# Altium integrated library Simulation Generic Components.IntLib: 218 symbols (part 4 of 7)
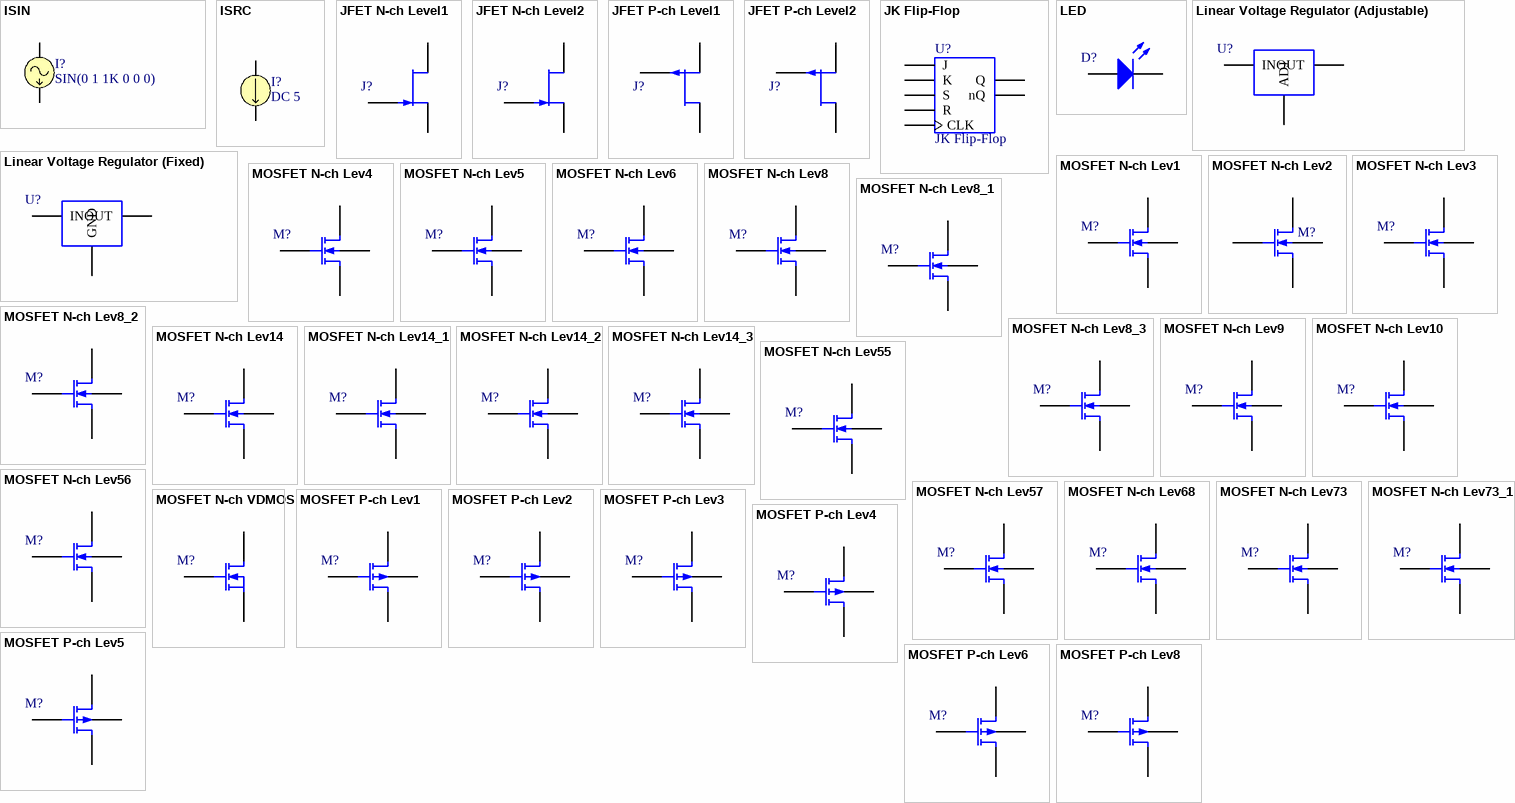
[diagram p8: symbols ISIN to MOSFET P-ch Lev8]

## MOSFET N-ch Lev73_1
designator M?, comment N-channel MOSFET HISIM_HV2 v2.2.0 Model  (value not drawn)
BB: 2; BGTMP1: 9.025e-05; BGTMP2: 1e-07; BS1: 0; BS2: 0.9; CJ: 0.0005; CJSW: 5e-10; CLM1: 0.05; CLM3: 1; DDLTICT: 10; DDRIFT: 1e-06; DEPLEAK: 0.5; DEPMUE0: 1000; DEPMUEBACK0: 100; DEPMUEPH0: 0.3; DEPMUEPH1: 5000; DEPMUETMP: 1.5; DEPVMAX: 3e07; DLY1: 1e-10; DLY2: 0.7; DLY3: 8e-07; EG0: 1.1785; FN1: 50; FN2: 0.00017; FVBS: 0.012; GBMIN: 1e-12; GIDL5: 0.2; GLEAK2: 1e07; GLEAK3: 0.06; GLEAK4: 4; GLEAK5: 7500; GLEAK6: 0.25; GLKB1: 5e-16; GLKSD1: 1e-15; GLKSD3: -1000; IBPC1LP: -1; JS0: 5e-07; KAPPA: 3.9; LP: 1.5e-08; LPEXT: 1e-50; MJSW: 0.33; MPHDFM: -0.3; MUEPH1: 20000; MUESR1: 6e14; NDEPM: 1e17; NFALP: 1e-19; NFTRP: 1e10; NOVER: 3e16; NPEXT: 5e17; NSUBC: 3e17; NSUBP: 1e18; NSUBSUB: 1e15; OVMAG: 0.6; OVSLP: 2.1e-07; PARL2: 1e-08; PTP: 3.5; PZADD0: 0.005; RDRQOVER: 100000; RDVD: 0.07; RTH0: 0.1; SHEMAX: 500; SLG: 3e-08; SUB1L: 0.0025; SUB2: 25; SUB2L: 2e-06; SVDS: 0.8; TNDEP: 2e-07; TNOM: 27; TOX: 7e-09; VBD_MAX: 1e99; VBI: 1.1; VBSMIN: -10.5; VDIFFJ: 0.0006; VFBOVER: -0.5; VGSMIN: -100; VZADD0: 0.01; SimulationGenericComponent: True; CGBO: 0; CGDO: 0; CGSO: 0; CISB: 0; CISBD: 0; CISBK: 0; CISBKD: 0; CISBKS: 0; CISBS: 0; CIT: 0; CJD: 0.0005; CJS: 0.0005; CJSWD: 5e-10; CJSWG: 5e-10; CJSWGD: 5e-10; CJSWGS: 5e-10; CJSWS: 5e-10; CLM2: 2; CLM5: 1; CLM6: 0; COADOV: 1; CODDLT: 1; CODEP: 0; CODFM: 0; COERRREP: 1; COFLICK: 0; COGIDL: 0; COIGN: 0; COIIGS: 0; COIPRV: 1; COISTI: 0; COISUB: 0; COLDRIFT: 1; CONQS: 0; COOVLP: 1; COOVLPS: 0; COPPRV: 1; COQOVSM: 1; CORDRIFT: 1; CORSRD: 0; COSYM: 0; COTEMP: 0; COTHRML: 0; CTEMP: 0; CTEMPD: 0; CTEMPS: 0; CTH0: 1e-07; CVB: 0; CVBD: 0; CVBK: 0; CVBS: 0; CVDSOVER: 0; DDLTMAX: 10; DDLTSLP: 0; DEPBB: 1; DEPETA: 0; DEPMUE1: 0; DEPMUEBACK1: 0; DEPVDSEF1: 2; DEPVDSEF2: 0.5; DEPVTMP: 0; DIVX: 0; DIVXD: 0; DIVXS: 0; DLYOV: 0; EGIG: 0; FALPH: 1; FN3: 0; GDL: 0; GDLD: 0; GDLP: 0; GDSLEAK: 0; GIDL1: 2; GIDL2: 3e07; GIDL3: 0.9; GIDL4: 0; GLEAK1: 50; GLEAK7: 1e-06; GLKB2: 1; GLKB3: 0; GLKSD2: 1000; GLPART1: 0.5; IBPC1: 0; IBPC1L: 0; IBPC2: 0; IGTEMP2: 0; IGTEMP3: 0; INFO: 0; ISBREAK: 1e-12; JS0D: 5e-07; JS0S: 5e-07; JS0SW: 0; JS0SWD: 0; JS0SWS: 0; LBGTMP1: 0; LBGTMP2: 0; LBINN: 1; LCGBO: 0; LCGDO: 0; LCGSO: 0; LCISBK: 0; LCISBKD: 0; LCISBKS: 0; LCLM1: 0; LCLM2: 0; LCLM3: 0; LCVDSOVER: 0; LEG0: 0; LEVEL: 0; LFALPH: 0; LFN1: 0; LFN2: 0; LFN3: 0; LFVBS: 0; LGIDL1: 0; LGIDL2: 0; LGLEAK1: 0; LGLEAK2: 0; LGLEAK3: 0; LGLEAK6: 0; LGLKB1: 0; LGLKB2: 0; LGLKSD1: 0; LGLKSD2: 0; LIBPC1: 0; LIBPC2: 0; LJS0: 0; LJS0D: 0; LJS0S: 0; LJS0SW: 0; LJS0SWD: 0; LJS0SWS: 0; LL: 0; LLD: 0; LLN: 0; LMAX: 1; LMIN: 0; LMUECB0: 0; LMUECB1: 0; LMUEPH1: 0; LMUESR1: 0; LMUESTI1: 0; LMUESTI2: 0; LMUESTI3: 0; LMUETMP: 0; LNDEP: 0; LNFALP: 0; LNFTRP: 0; LNINV: 0; LNJ: 0; LNJD: 0; LNJS: 0; LNOVER: 0; LNOVERS: 0; LNPEXT: 0; LNSTI: 0; LNSUBC: 0; LNSUBP: 0; LNSUBPSTI1: 0; LNSUBPSTI2: 0; LNSUBPSTI3: 0; LPGD1: 0; LPOWRAT: 0; LRD: 0; LRD22: 0; LRD23: 0; LRD24: 0; LRDICT1: 0; LRDOV13: 0; LRDSLP1: 0; LRDVB: 0; LRDVD: 0; LRDVG11: 0; LRS: 0; LRTH0: 0; LSC1: 0; LSC2: 0; LSC3: 0; LSCP1: 0; LSCP2: 0; LSCP3: 0; LSCSTI1: 0; LSCSTI2: 0; LSUB1: 0; LSUB2: 0; LSVBS: 0; LSVDS: 0; LSVGS: 0; LVDIFFJ: 0; LVDIFFJD: 0; LVDIFFJS: 0; LVFBC: 0; LVFBOVER: 0; LVMAX: 0; LVOVER: 0; LVTHSTI: 0; LVTMP: 0; LWFC: 0; LWL2: 0; LWSTI: 0; LWVTH0: 0; MJ: 0.5; MJD: 0.5; MJS: 0.5; MJSWD: 0.33; MJSWG: 0.33; MJSWGD: 0.33; MJSWGS: 0.33; MJSWS: 0.33; MUECB0: 1000; MUECB1: 100; MUEPH0: 0.3; MUEPHL: 0; MUEPHS: 0; MUEPHW: 0; MUEPLP: 1; MUEPSP: 1; MUEPWP: 1; MUESLP: 1; MUESR0: 2; MUESRL: 0; MUESRW: 0; MUESTI1: 0; MUESTI2: 0; MUESTI3: 1; MUESWP: 1; MUETMP: 1.5; NDEP: 1; NDEPL: 0; NDEPLP: 1; NINV: 0.5; NINVD: 0; NINVDT1: 0; NINVDT2: 0; NINVDW: 0; NINVDWP: 1; NJ: 1; NJD: 1; NJS: 1; NJSW: 1; NJSWD: 1; NJSWS: 1; NOISE: 1; NOVERS: 1e17; NSTI: 5e17; NSUBCW: 0; NSUBCWP: 1; NSUBP0: 0; NSUBPSTI1: 0; NSUBPSTI2: 0; NSUBPSTI3: 1; NSUBWP: 1; PB: 1; PBD: 1; PBGTMP1: 0; PBGTMP2: 0; PBS: 1; PBSW: 1; PBSWD: 1; PBSWG: 1; PBSWGD: 1; PBSWGS: 1; PBSWS: 1; PCGBO: 0; PCGDO: 0; PCGSO: 0; PCISBK: 0; PCISBKD: 0; PCISBKS: 0; PCLM1: 0; PCLM2: 0; PCLM3: 0; PCVDSOVER: 0; PEG0: 0; PFALPH: 0; PFN1: 0; PFN2: 0; PFN3: 0; PFVBS: 0; PGD1: 0; PGD2: 1; PGD4: 0; PGIDL1: 0; PGIDL2: 0; PGLEAK1: 0; PGLEAK2: 0; PGLEAK3: 0; PGLEAK6: 0; PGLKB1: 0; PGLKB2: 0; PGLKSD1: 0; PGLKSD2: 0; PIBPC1: 0; PIBPC2: 0; PJS0: 0; PJS0D: 0; PJS0S: 0; PJS0SW: 0; PJS0SWD: 0; PJS0SWS: 0; PMUECB0: 0; PMUECB1: 0; PMUEPH1: 0; PMUESR1: 0; PMUESTI1: 0; PMUESTI2: 0; PMUESTI3: 0; PMUETMP: 0; PNDEP: 0; PNFALP: 0; PNFTRP: 0; PNINV: 0; PNJ: 0; PNJD: 0; PNJS: 0; PNOVER: 0; PNOVERS: 0; PNPEXT: 0; PNSTI: 0; PNSUBC: 0; PNSUBP: 0; PNSUBPSTI1: 0; PNSUBPSTI2: 0; PNSUBPSTI3: 0; POWRAT: 1; PPGD1: 0; PPOWRAT: 0; PRATTEMP1: 0; PRATTEMP2: 0; PRD: 0; PRD22: 0; PRD23: 0; PRD24: 0; PRDICT1: 0; PRDOV13: 0; PRDSLP1: 0; PRDVB: 0; PRDVD: 0; PRDVG11: 0; PRS: 0; PRTH0: 0; PSC1: 0; PSC2: 0; PSC3: 0; PSCP1: 0; PSCP2: 0; PSCP3: 0; PSCSTI1: 0; PSCSTI2: 0; PSUB1: 0; PSUB2: 0; PSVBS: 0; PSVDS: 0; PSVGS: 0; PT2: 0; PT4: 0; PT4P: 1; PTL: 0; PTLP: 1; PVDIFFJ: 0; PVDIFFJD: 0; PVDIFFJS: 0; PVFBC: 0; PVFBOVER: 0; PVMAX: 0; PVOVER: 0; PVTHSTI: 0; PVTMP: 0; PWFC: 0; PWL2: 0; PWSTI: 0; PWVTH0: 0; QDFTVD: 1; QME1: 0; QME2: 2; QME3: 0; QOVADD: 0; RD: 0; RD20: 0; RD21: 1; RD22: 0; RD22D: 0; RD23: 0.005; RD23L: 0; RD23LP: 1; RD23S: 0; RD23SP: 1; RD24: 0; RD25: 0; RDICT1: 1; RDICT2: 0; RDOV11: 0; RDOV12: 1; RDOV13: 1; RDRBB: 1; RDRBBTMP: 0; RDRCAR: 1e-08; RDRCX: 0; RDRDJUNC: 1e-06; RDRDL1: 0; RDRDL2: 0; RDRMUE: 1000; RDRMUEL: 0; RDRMUELP: 1; RDRMUETMP: 0; RDRVMAX: 3e07; RDRVMAXL: 0; RDRVMAXLP: 1; RDRVMAXW: 0; RDRVMAXWP: 1; RDRVTMP: 0; RDS: 0; RDSLP1: 0; RDSLP2: 1; RDSP: 1; RDTEMP1: 0; RDTEMP2: 0; RDVB: 0; RDVDL: 0; RDVDLP: 1; RDVDS: 0; RDVDSP: 1; RDVDSUB: 0.3; RDVDTEMP1: 0; RDVDTEMP2: 0; RDVG11: 0; RDVG12: 100; RDVSUB: 1; RS: 0; RSH: 0; RSHG: 0; RTH0NF: 0; RTH0R: 0; RTH0W: 0; RTH0WP: 1; RTHTEMP1: 0; RTHTEMP2: 0; RWELL: 1000; SAREF: 1e-06; SBREF: 1e-06; SC1: 0; SC2: 0; SC3: 0; SC4: 0; SCP1: 0; SCP2: 0; SCP21: 0; SCP22: 0; SCP3: 0; SCSTI1: 0; SCSTI2: 0; SHOW: 0; SLGL: 0; SLGLP: 1; SUB1: 10; SUB1LP: 1; SUBLD1L: 0; SUBLD1LP: 1; SVBS: 0.5; SVBSL: 0; SVBSLP: 1; SVGS: 0.8; SVGSL: 0; SVGSLP: 1; SVGSW: 0; SVGSWP: 1; TCJBD: 0; TCJBDSW: 0; TCJBDSWG: 0; TCJBS: 0; TCJBSSW: 0; TCJBSSWG: 0; TPOLY: 2e-07; VBDR_MAX: 1e99; VBISUB: 0.7; VBS_MAX: 1e99; VBSR_MAX: 1e99; VDIFFJD: 0.0006; VDIFFJS: 0.0006; VDS_MAX: 1e99; VDSTI: 0; VERSION: 2.20; VFBC: -1; VGB_MAX: 1e99; VGBR_MAX: 1e99; VGD_MAX: 1e99; VGDR_MAX: 1e99; VGS_MAX: 1e99; VGSR_MAX: 1e99; VMAX: 1e07; VMAXT1: 0; VMAXT2: 0; VOVER: 0.3; VOVERP: 0.3; VOVERS: 0; VOVERSP: 0; VTHSTI: 0; VTMP: 0; WBGTMP1: 0; WBGTMP2: 0; WBINN: 1; WCGBO: 0; WCGDO: 0; WCGSO: 0; WCISBK: 0; WCISBKD: 0; WCISBKS: 0; WCLM1: 0; WCLM2: 0; WCLM3: 0; WCVDSOVER: 0; WEG0: 0; WFALPH: 0; WFC: 0; WFN1: 0; WFN2: 0; WFN3: 0; WFVBS: 0; WGIDL1: 0; WGIDL2: 0; WGLEAK1: 0; WGLEAK2: 0; WGLEAK3: 0; WGLEAK6: 0; WGLKB1: 0; WGLKB2: 0; WGLKSD1: 0; WGLKSD2: 0; WIBPC1: 0; WIBPC2: 0; WJS0: 0; WJS0D: 0; WJS0S: 0; WJS0SW: 0; WJS0SWD: 0; WJS0SWS: 0; WL: 0; WL1: 0; WL1P: 1; WL2: 0; WL2P: 1; WLD: 0; WLN: 0; WMAX: 1; WMIN: 0; WMUECB0: 0; WMUECB1: 0; WMUEPH1: 0; WMUESR1: 0; WMUESTI1: 0; WMUESTI2: 0; WMUESTI3: 0; WMUETMP: 0; WNDEP: 0; WNFALP: 0; WNFTRP: 0; WNINV: 0; WNJ: 0; WNJD: 0; WNJS: 0; WNOVER: 0; WNOVERS: 0; WNPEXT: 0; WNSTI: 0; WNSUBC: 0; WNSUBP: 0; WNSUBPSTI1: 0; WNSUBPSTI2: 0; WNSUBPSTI3: 0; WPGD1: 0; WPOWRAT: 0; WRD: 0; WRD22: 0; WRD23: 0; WRD24: 0; WRDICT1: 0; WRDOV13: 0; WRDSLP1: 0; WRDVB: 0; WRDVD: 0; WRDVG11: 0; WRS: 0; WRTH0: 0; WSC1: 0; WSC2: 0; WSC3: 0; WSCP1: 0; WSCP2: 0; WSCP3: 0; WSCSTI1: 0; WSCSTI2: 0; WSTI: 0; WSTIL: 0; WSTILP: 1; WSTIW: 0; WSTIWP: 1; WSUB1: 0; WSUB2: 0; WSVBS: 0; WSVDS: 0; WSVGS: 0; WVDIFFJ: 0; WVDIFFJD: 0; WVDIFFJS: 0; WVFBC: 0; WVFBOVER: 0; WVMAX: 0; WVOVER: 0; WVTH0: 0; WVTHSTI: 0; WVTMP: 0; WWFC: 0; WWL2: 0; WWSTI: 0; WWVTH0: 0; XL: 0; XLD: 0; XLDLD: 1e-06; XPDV: 0; XPVDTH: 0; XPVDTHG: 0; XQY: 0; XQY1: 0; XQY2: 2; XTI: 2; XTI2: 0; XTI2D: 0; XTI2S: 0; XTID: 2; XTIS: 2; XW: 0; XWD: 0; XWDC: 0; XWDLD: 0
simulation model NMOSFET_HISIM_HV2 (HISIM_HV1 v1.2.4)
pins: 1 D, 2 G, 3 S, 4 B

## MOSFET N-ch VDMOS
designator M?, comment N-channel Power MOSFET VDMOS Model  (value not drawn)
XTI: 0; A: 1; BV: 1e30; EG: 1.11; FC: 0.5; IBV: 1e-10; IS: 1e-14; PHI: 0.6; TNOM: 27; VJ: 0.8; SimulationGenericComponent: True; CGDMAX: 0; CGDMIN: 0; CGS: 0; CJO: 0; KP: 1; KSUBTHRES: 0; LAMBDA: 0; M: 0.5; MTRIODE: 1; N: 1; NBV: 1; NCHAN: 1; RB: 0; RD: 0; RDS: 1e30; RG: 0; RQ: 0; RS: 0; SUBSHIFT: 0; SUBSLOPE: 0; THETA: 0; TT: 0; VQ: 0; VTO: 0
simulation model VDMOS_Nchan (Power MOS model N-chanel VDMOS)
pins: 1 D, 2 G, 3 S

## MOSFET P-ch Lev1
designator M?, comment P-channel MOS1 MOSFET Shichman and Hodges Model  (value not drawn)
CBD: 0; FC: 0.5; IS: 1e-14; KP: 2e-05; PB: 0.8; PHI: 0.6; TNOM: 27; SimulationGenericComponent: True; CBS: 0; CGBO: 0; CGDO: 0; CGSO: 0; CJ: 0; CJSW: 0; GAMMA: 0; JS: 0; LAMBDA: 0; LD: 0; MJ: 0.5; MJSW: 0.5; NSS: 0; NSUB: 0; RD: 0; RS: 0; RSH: 0; TOX: 0; TPG: 0; U0: 0; VTO: 0
simulation model PMOSFET_Level1 (MOS1 Shichman and Hodges Model)
pins: 1 D, 2 G, 3 S, 4 B

## MOSFET P-ch Lev2
designator M?, comment P-channel MOSFET MOS2 Grove-Frohman Model  (value not drawn)
AF: 1; CBD: 0; FC: 0.5; IS: 1e-14; KP: 2.07189e-05; MJSW: 0.33; PB: 0.8; PHI: 0.6; TNOM: 27; TOX: 1e-07; U0: 600; UCRIT: 10000; SimulationGenericComponent: True; CBS: 0; CGBO: 0; CGDO: 0; CGSO: 0; CJ: 0; CJSW: 0; DELTA: 0; GAMMA: 0; JS: 0; KF: 0; LAMBDA: 0; LD: 0; MJ: 0.5; NEFF: 1; NFS: 0; NSS: 0; NSUB: 0; RD: 0; RS: 0; RSH: 0; TPG: 0; UEXP: 0; VMAX: 0; VTO: 0; XJ: 0
simulation model PMOSFET_Level2 (MOS2 Grove-Frohman Model)
pins: 1 D, 2 G, 3 S, 4 B

## MOSFET P-ch Lev3
designator M?, comment P-channel MOSFET MOS3 Model  (value not drawn)
AF: 1; ALPHA: 0; FC: 0.5; IS: 1e-14; KAPPA: 0.2; KP: 2.07189e-05; MJSW: 0.33; PB: 0.8; PHI: 0.6; TNOM: 27; TOX: 1e-07; U0: 600; SimulationGenericComponent: True; CBD: 0; CBS: 0; CGBO: 0; CGDO: 0; CGSO: 0; CJ: 0; CJSW: 0; DELTA: 0; DELVTO: 0; ETA: 0; GAMMA: 0; INPUT_DELTA: 0; JS: 0; KF: 0; LD: 0; MJ: 0.5; NFS: 0; NSS: 0; NSUB: 0; RD: 0; RS: 0; RSH: 0; THETA: 0; TPG: 0; VMAX: 0; VTO: 0; WD: 0; XD: 0; XJ: 0; XL: 0; XW: 0
simulation model PMOSFET_Level3 (MOS3)
pins: 1 D, 2 G, 3 S, 4 B

## MOSFET P-ch Lev4
designator M?, comment P-channel MOSFET BSIM1 Model  (value not drawn)
AF: 1; CGBO: 0; PB: 0.1; SimulationGenericComponent: True; CGDO: 0; CGSO: 0; CJ: 0; CJSW: 0; DELL: 0; DL: 0; DW: 0; ETA: 0; JS: 0; K1: 0; K2: 0; KF: 0; LETA: 0; LK1: 0; LK2: 0; LMUS: 0; LN0: 0; LNB: 0; LND: 0; LPHI: 0; LU0: 0; LU1: 0; LVFB: 0; LX2E: 0; LX2MS: 0; LX2MZ: 0; LX2U0: 0; LX2U1: 0; LX3E: 0; LX3MS: 0; LX3U1: 0; MJ: 0; MJSW: 0; MUS: 0; MUZ: 0; N0: 0; NB: 0; ND: 0; PBSW: 0.1; PHI: 0; RSH: 0; TEMP: 0; TOX: 0; U0: 0; U1: 0; VDD: 0; VFB: 0; WDF: 0; WETA: 0; WK1: 0; WK2: 0; WMUS: 0; WN0: 0; WNB: 0; WND: 0; WPHI: 0; WU0: 0; WU1: 0; WVFB: 0; WX2E: 0; WX2MS: 0; WX2MZ: 0; WX2U0: 0; WX2U1: 0; WX3E: 0; WX3MS: 0; WX3U1: 0; X2E: 0; X2MS: 0; X2MZ: 0; X2U0: 0; X2U1: 0; X3E: 0; X3MS: 0; X3U1: 0; XPART: 0
simulation model PMOSFET_BSIM1 (BSIM1)
pins: 1 D, 2 G, 3 S, 4 B

## MOSFET P-ch Lev5
designator M?, comment P-channel MOSFET BSIM2 Model  (value not drawn)
AF: 0; K1: 0.8; MU0: 400; MU20: 1.5; MU30: 10; MUS0: 500; N0: 1.4; NB: 0.5; PB: 0.1; PHI: 0.75; TEMP: 27; TOX: 0.03; UA0: 0.2; VBB: 5; VFB: -1; VGLOW: -0.15; VOF0: 1.8; SimulationGenericComponent: True; AI0: 0; AIB: 0; BI0: 0; BIB: 0; CGBO: 0; CGDO: 0; CGSO: 0; CJ: 0; CJSW: 0; DELL: 0; DL: 0; DW: 0; ETA0: 0; ETAB: 0; JS: 0; K2: 0; KF: 0; LAI0: 0; LAIB: 0; LBI0: 0; LBIB: 0; LETA0: 0; LETAB: 0; LK1: 0; LK2: 0; LMU0B: 0; LMU20: 0; LMU2B: 0; LMU2G: 0; LMU30: 0; LMU3B: 0; LMU3G: 0; LMU40: 0; LMU4B: 0; LMU4G: 0; LMUS0: 0; LMUSB: 0; LN0: 0; LNB: 0; LND: 0; LPHI: 0; LU10: 0; LU1B: 0; LU1D: 0; LUA0: 0; LUAB: 0; LUB0: 0; LUBB: 0; LVFB: 0; LVGHIGH: 0; LVGLOW: 0; LVOF0: 0; LVOFB: 0; LVOFD: 0; MJ: 0; MJSW: 0; MU0B: 0; MU2B: 0; MU2G: 0; MU3B: 0; MU3G: 0; MU40: 0; MU4B: 0; MU4G: 0; MUSB: 0; ND: 0; PBSW: 0.1; RSH: 0; U10: 0.1; U1B: 0; U1D: 0; UAB: 0; UB0: 0; UBB: 0; VDD: 5; VGG: 5; VGHIGH: 0.2; VOFB: 0; VOFD: 0; WAI0: 0; WAIB: 0; WBI0: 0; WBIB: 0; WDF: 10; WETA0: 0; WETAB: 0; WK1: 0; WK2: 0; WMU0B: 0; WMU20: 0; WMU2B: 0; WMU2G: 0; WMU30: 0; WMU3B: 0; WMU3G: 0; WMU40: 0; WMU4B: 0; WMU4G: 0; WMUS0: 0; WMUSB: 0; WN0: 0; WNB: 0; WND: 0; WPHI: 0; WU10: 0; WU1B: 0; WU1D: 0; WUA0: 0; WUAB: 0; WUB0: 0; WUBB: 0; WVFB: 0; WVGHIGH: 0; WVGLOW: 0; WVOF0: 0; WVOFB: 0; WVOFD: 0; XPART: 0
simulation model PMOSFET_BSIM2 (BSIM1)
pins: 1 D, 2 G, 3 S, 4 B

## MOSFET P-ch Lev6
designator M?, comment P-channel MOSFET MOS6 Model  (value not drawn)
CBD: 0; FC: 0.5; IS: 1e-14; KC: 5e-05; KV: 2; NC: 1; PB: 0.8; PHI: 0.6; TNOM: 300.15; SimulationGenericComponent: True; CBS: 0; CGBO: 0; CGDO: 0; CGSO: 0; CJ: 0; CJSW: 0; GAMMA: 0; GAMMA1: 0; JS: 0; LAMBDA: 0; LAMBDA0: 0; LAMBDA1: 0; LD: 0; MJ: 0.5; MJSW: 0.5; NSS: 0; NSUB: 0; NV: 0.5; NVTH: 0.5; RD: 0; RS: 0; RSH: 0; SIGMA: 0; TOX: 0; TPG: 0; U0: 0; VTO: 0
simulation model PMOSFET_Level6 (MOS6)
pins: 1 D, 2 G, 3 S, 4 B

## MOSFET P-ch Lev8
designator M?, comment P-channel MOSFET BSIM3v0 v3.0 Model  (value not drawn)
A0: 1; A1: 0; AT: 33000; BETA0: 30; CAPMOD: 3; CDSC: 0.00024; CF: 7.29897e-11; CGDO: 2.07188e-10; CJ: 0.0005; CJSW: 5e-10; CKAPPA: 0.6; CLC: 1e-07; DELTA: 0.01; DROUT: 0.56; DVT0: 2.2; DVT1: 0.53; DVT1W: 5.3e06; DVT2: -0.032; ELM: 5; EM: 4.1e07; ETA0: 0.08; ETAB: -0.07; IJTH: 0.1; JS: 0.0001; K3: 80; KETA: -0.047; KT1: -0.11; KT2: 0.022; LETAB: -0; MJ: 0.5; MJSW: 0.33; MOIN: 15; NCH: 1.7e17; NLX: 1.74e-07; NOIA: 1e20; NOIB: 50000; NOIC: -1.4e-12; NSUB: 6e16; PCLM: 1.3; PDIBLC1: 0.39; PDIBLC2: 0.0086; PSCBE1: 4.24e08; PSCBE2: 1e-05; TNOM: 300.15; TOX: 1.5e-08; U0: 0.067; UA: 2.25e-09; UA1: 4.31e-09; UB: 5.87e-19; UB1: -7.61e-18; UC: -4.65e-11; UC1: -5.6e-11; UTE: -1.5; VBD_MAX: 1e99; VBM: -3; VFBCV: -1; VOFF: -0.08; VSAT: 80000; VTH0: 0.7; W0: 2.5e-06; XJ: 1.5e-07; XT: 1.55e-07; SimulationGenericComponent: True; A2: 1; ACDE: 1; ACM: 0; AF: 1; AGS: 0; ALPHA0: 0; ALPHA1: 0; B0: 0; B1: 0; BINUNIT: 1; CALCACM: 0; CDSCB: 0; CDSCD: 0; CGBO: 0; CGDL: 0; CGSL: 0; CGSO: 2.07188e-10; CIT: 0; CJSWG: 5e-10; CLE: 0.6; DLC: 0; DSUB: 0.56; DVT0W: 0; DVT2W: -0.032; DWB: 0; DWC: 0; DWG: 0; EF: 1; GAMMA1: 0; GAMMA2: 0; HDIF: 0; JSW: 0; K1: 0; K2: 0; K3B: 0; KF: 0; KT1L: 0; LA0: 0; LA1: 0; LA2: 0; LACDE: 0; LAGS: 0; LALPHA0: 0; LALPHA1: 0; LAT: 0; LB0: 0; LB1: 0; LBETA0: 0; LCDSC: 0; LCDSCB: 0; LCDSCD: 0; LCF: 0; LCGDL: 0; LCGSL: 0; LCIT: 0; LCKAPPA: 0; LCLC: 0; LCLE: 0; LD: 0; LDELTA: 0; LDIF: 0; LDROUT: 0; LDSUB: 0; LDVT0: 0; LDVT0W: 0; LDVT1: 0; LDVT1W: 0; LDVT2: 0; LDVT2W: 0; LDWB: 0; LDWG: 0; LELM: 0; LETA0: 0; LGAMMA1: 0; LGAMMA2: 0; LINT: 0; LINTNOI: 0; LK1: 0; LK2: 0; LK3: 0; LK3B: 0; LKETA: 0; LKT1: 0; LKT1L: 0; LKT2: 0; LL: 0; LLC: 0; LLN: 1; LMAX: 1; LMIN: 0; LMOIN: 0; LNCH: 0; LNFACTOR: 0; LNGATE: 0; LNLX: 0; LNOFF: 0; LNSUB: 0; LPCLM: 0; LPDIBLC1: 0; LPDIBLC2: 0; LPDIBLCB: 0; LPRT: 0; LPRWB: 0; LPRWG: 0; LPSCBE1: 0; LPSCBE2: 0; LPVAG: 0; LRDSW: 0; LU0: 0; LUA: 0; LUA1: 0; LUB: 0; LUB1: 0; LUC: 0; LUC1: 0; LUTE: 0; LVBM: 0; LVBX: 0; LVFB: 0; LVFBCV: 0; LVOFF: 0; LVOFFCV: 0; LVSAT: 0; LVTH0: 0; LW: 0; LW0: 0; LWC: 0; LWL: 0; LWLC: 0; LWN: 1; LWR: 0; LXJ: 0; LXT: 0; MJSWG: 0.33; MOBMOD: 1; NFACTOR: 1; NGATE: 0; NJ: 1; NOFF: 1; NOIMOD: 1; PA0: 0; PA1: 0; PA2: 0; PACDE: 0; PAGS: 0; PALPHA0: 0; PALPHA1: 0; PARAMCHK: 0; PAT: 0; PB: 1; PB0: 0; PB1: 0; PBETA0: 0; PBSW: 1; PBSWG: 1; PCDSC: 0; PCDSCB: 0; PCDSCD: 0; PCF: 0; PCGDL: 0; PCGSL: 0; PCIT: 0; PCKAPPA: 0; PCLC: 0; PCLE: 0; PDELTA: 0; PDIBLCB: 0; PDROUT: 0; PDSUB: 0; PDVT0: 0; PDVT0W: 0; PDVT1: 0; PDVT1W: 0; PDVT2: 0; PDVT2W: 0; PDWB: 0; PDWG: 0; PELM: 0; PETA0: 0; PETAB: 0; PGAMMA1: 0; PGAMMA2: 0; PK1: 0; PK2: 0; PK3: 0; PK3B: 0; PKETA: 0; PKT1: 0; PKT1L: 0; PKT2: 0; PMOIN: 0; PNCH: 0; PNFACTOR: 0; PNGATE: 0; PNLX: 0; PNOFF: 0; PNSUB: 0; PPCLM: 0; PPDIBLC1: 0; PPDIBLC2: 0; PPDIBLCB: 0; PPRT: 0; PPRWB: 0; PPRWG: 0; PPSCBE1: 0; PPSCBE2: 0; PPVAG: 0; PRDSW: 0; PRT: 0; PRWB: 0; PRWG: 0; PU0: 0; PUA: 0; PUA1: 0; PUB: 0; PUB1: 0; PUC: 0; PUC1: 0; PUTE: 0; PVAG: 0; PVBM: 0; PVBX: 0; PVFB: 0; PVFBCV: 0; PVOFF: 0; PVOFFCV: 0; PVSAT: 0; PVTH0: 0; PW0: 0; PWR: 0; PXJ: 0; PXT: 0; RD: 0; RDC: 0; RDSW: 0; RS: 0; RSC: 0; RSH: 0; TCJ: 0; TCJSW: 0; TCJSWG: 0; TOXM: 1.5e-08; TPB: 0; TPBSW: 0; TPBSWG: 0; VBDR_MAX: 1e99; VBS_MAX: 1e99; VBSR_MAX: 1e99; VBX: 0; VDS_MAX: 1e99; VERSION: 3.3.0; VFB: 0; VGB_MAX: 1e99; VGBR_MAX: 1e99; VGD_MAX: 1e99; VGDR_MAX: 1e99; VGS_MAX: 1e99; VGSR_MAX: 1e99; VOFFCV: 0; WA0: 0; WA1: 0; WA2: 0; WACDE: 0; WAGS: 0; WALPHA0: 0; WALPHA1: 0; WAT: 0; WB0: 0; WB1: 0; WBETA0: 0; WCDSC: 0; WCDSCB: 0; WCDSCD: 0; WCF: 0; WCGDL: 0; WCGSL: 0; WCIT: 0; WCKAPPA: 0; WCLC: 0; WCLE: 0; WDELTA: 0; WDROUT: 0; WDSUB: 0; WDVT0: 0; WDVT0W: 0; WDVT1: 0; WDVT1W: 0; WDVT2: 0; WDVT2W: 0; WDWB: 0; WDWG: 0; WELM: 0; WETA0: 0; WETAB: 0; WGAMMA1: 0; WGAMMA2: 0; WINT: 0; WK1: 0; WK2: 0; WK3: 0; WK3B: 0; WKETA: 0; WKT1: 0; WKT1L: 0; WKT2: 0; WL: 0; WLC: 0; WLN: 1; WMAX: 1; WMIN: 0; WMLT: 1; WMOIN: 0; WNCH: 0; WNFACTOR: 0; WNGATE: 0; WNLX: 0; WNOFF: 0; WNSUB: 0; WPCLM: 0; WPDIBLC1: 0; WPDIBLC2: 0; WPDIBLCB: 0; WPRT: 0; WPRWB: 0; WPRWG: 0; WPSCBE1: 0; WPSCBE2: 0; WPVAG: 0; WR: 1; WRDSW: 0; WU0: 0; WUA: 0; WUA1: 0; WUB: 0; WUB1: 0; WUC: 0; WUC1: 0; WUTE: 0; WVBM: 0; WVBX: 0; WVFB: 0; WVFBCV: 0; WVOFF: 0; WVOFFCV: 0; WVSAT: 0; WVTH0: 0; WW: 0; WW0: 0; WWC: 0; WWL: 0; WWLC: 0; WWN: 1; WWR: 0; WXJ: 0; WXT: 0; XL: 0; XPART: 0; XTI: 3; XW: 0
simulation model PMOSFET_BSIM3v0 (BSIM3v0 v3.0)
pins: 1 D, 2 G, 3 S, 4 B

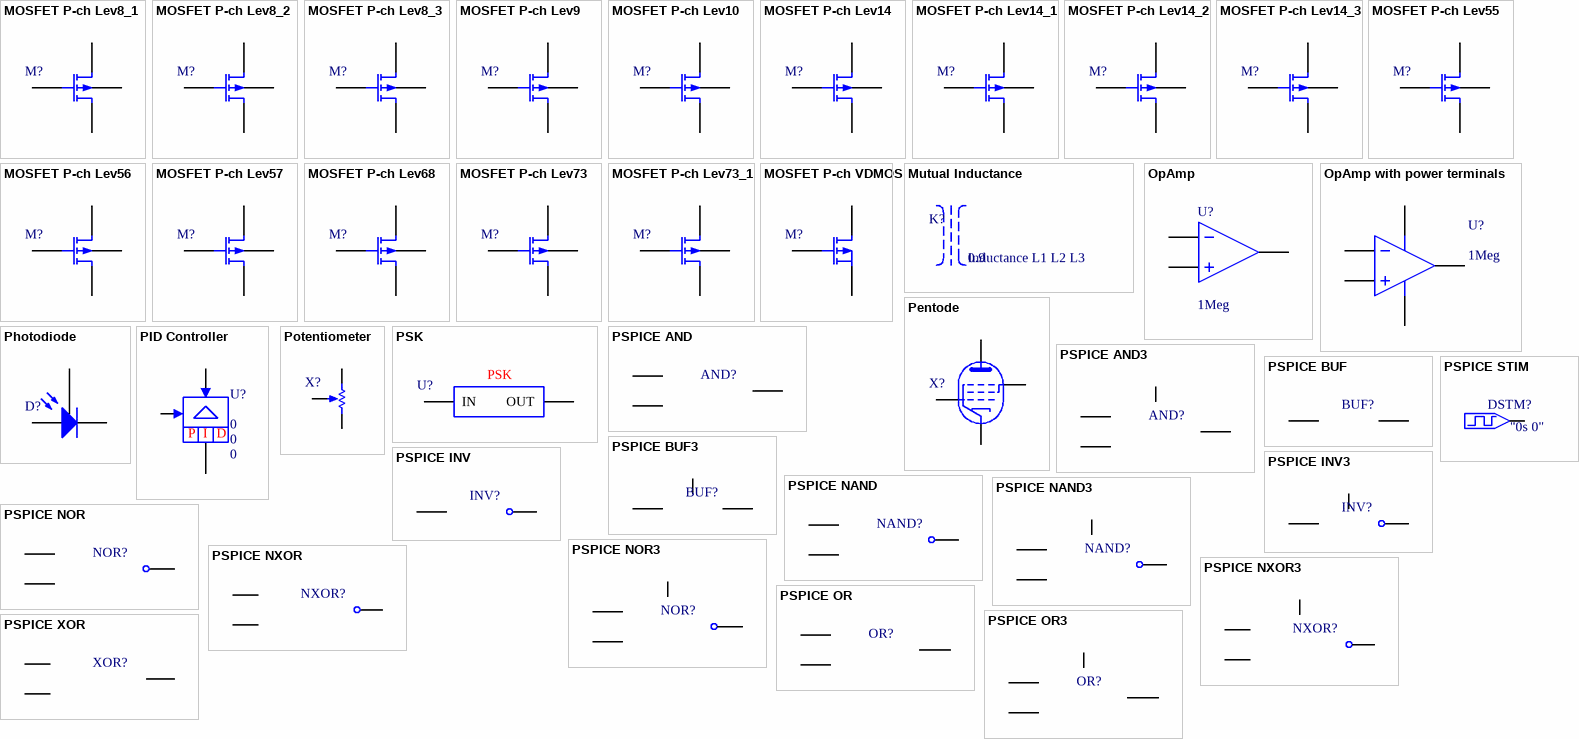
[diagram p3: symbols MOSFET P-ch Lev8_1 to PSPICE XOR]

## MOSFET P-ch Lev8_1
designator M?, comment P-channel MOSFET BSIM3v1 v3.1 Model  (value not drawn)
A0: 1; A1: 0; AT: 33000; BETA0: 30; CAPMOD: 3; CDSC: 0.00024; CF: 7.29897e-11; CGDO: 2.07188e-10; CJ: 0.0005; CJSW: 5e-10; CKAPPA: 0.6; CLC: 1e-07; DELTA: 0.01; DROUT: 0.56; DVT0: 2.2; DVT1: 0.53; DVT1W: 5.3e06; DVT2: -0.032; ELM: 5; EM: 4.1e07; ETA0: 0.08; ETAB: -0.07; IJTH: 0.1; JS: 0.0001; K3: 80; KETA: -0.047; KT1: -0.11; KT2: 0.022; LETAB: -0; MJ: 0.5; MJSW: 0.33; MOIN: 15; NCH: 1.7e17; NLX: 1.74e-07; NOIA: 1e20; NOIB: 50000; NOIC: -1.4e-12; NSUB: 6e16; PCLM: 1.3; PDIBLC1: 0.39; PDIBLC2: 0.0086; PSCBE1: 4.24e08; PSCBE2: 1e-05; TNOM: 300.15; TOX: 1.5e-08; U0: 0.067; UA: 2.25e-09; UA1: 4.31e-09; UB: 5.87e-19; UB1: -7.61e-18; UC: -4.65e-11; UC1: -5.6e-11; UTE: -1.5; VBD_MAX: 1e99; VBM: -3; VFBCV: -1; VOFF: -0.08; VSAT: 80000; VTH0: 0.7; W0: 2.5e-06; XJ: 1.5e-07; XT: 1.55e-07; SimulationGenericComponent: True; A2: 1; ACDE: 1; ACM: 0; AF: 1; AGS: 0; ALPHA0: 0; ALPHA1: 0; B0: 0; B1: 0; BINUNIT: 1; CALCACM: 0; CDSCB: 0; CDSCD: 0; CGBO: 0; CGDL: 0; CGSL: 0; CGSO: 2.07188e-10; CIT: 0; CJSWG: 5e-10; CLE: 0.6; DLC: 0; DSUB: 0.56; DVT0W: 0; DVT2W: -0.032; DWB: 0; DWC: 0; DWG: 0; EF: 1; GAMMA1: 0; GAMMA2: 0; HDIF: 0; JSW: 0; K1: 0; K2: 0; K3B: 0; KF: 0; KT1L: 0; LA0: 0; LA1: 0; LA2: 0; LACDE: 0; LAGS: 0; LALPHA0: 0; LALPHA1: 0; LAT: 0; LB0: 0; LB1: 0; LBETA0: 0; LCDSC: 0; LCDSCB: 0; LCDSCD: 0; LCF: 0; LCGDL: 0; LCGSL: 0; LCIT: 0; LCKAPPA: 0; LCLC: 0; LCLE: 0; LD: 0; LDELTA: 0; LDIF: 0; LDROUT: 0; LDSUB: 0; LDVT0: 0; LDVT0W: 0; LDVT1: 0; LDVT1W: 0; LDVT2: 0; LDVT2W: 0; LDWB: 0; LDWG: 0; LELM: 0; LETA0: 0; LGAMMA1: 0; LGAMMA2: 0; LINT: 0; LINTNOI: 0; LK1: 0; LK2: 0; LK3: 0; LK3B: 0; LKETA: 0; LKT1: 0; LKT1L: 0; LKT2: 0; LL: 0; LLC: 0; LLN: 1; LMAX: 1; LMIN: 0; LMOIN: 0; LNCH: 0; LNFACTOR: 0; LNGATE: 0; LNLX: 0; LNOFF: 0; LNSUB: 0; LPCLM: 0; LPDIBLC1: 0; LPDIBLC2: 0; LPDIBLCB: 0; LPRT: 0; LPRWB: 0; LPRWG: 0; LPSCBE1: 0; LPSCBE2: 0; LPVAG: 0; LRDSW: 0; LU0: 0; LUA: 0; LUA1: 0; LUB: 0; LUB1: 0; LUC: 0; LUC1: 0; LUTE: 0; LVBM: 0; LVBX: 0; LVFB: 0; LVFBCV: 0; LVOFF: 0; LVOFFCV: 0; LVSAT: 0; LVTH0: 0; LW: 0; LW0: 0; LWC: 0; LWL: 0; LWLC: 0; LWN: 1; LWR: 0; LXJ: 0; LXT: 0; MJSWG: 0.33; MOBMOD: 1; NFACTOR: 1; NGATE: 0; NJ: 1; NOFF: 1; NOIMOD: 1; PA0: 0; PA1: 0; PA2: 0; PACDE: 0; PAGS: 0; PALPHA0: 0; PALPHA1: 0; PARAMCHK: 0; PAT: 0; PB: 1; PB0: 0; PB1: 0; PBETA0: 0; PBSW: 1; PBSWG: 1; PCDSC: 0; PCDSCB: 0; PCDSCD: 0; PCF: 0; PCGDL: 0; PCGSL: 0; PCIT: 0; PCKAPPA: 0; PCLC: 0; PCLE: 0; PDELTA: 0; PDIBLCB: 0; PDROUT: 0; PDSUB: 0; PDVT0: 0; PDVT0W: 0; PDVT1: 0; PDVT1W: 0; PDVT2: 0; PDVT2W: 0; PDWB: 0; PDWG: 0; PELM: 0; PETA0: 0; PETAB: 0; PGAMMA1: 0; PGAMMA2: 0; PK1: 0; PK2: 0; PK3: 0; PK3B: 0; PKETA: 0; PKT1: 0; PKT1L: 0; PKT2: 0; PMOIN: 0; PNCH: 0; PNFACTOR: 0; PNGATE: 0; PNLX: 0; PNOFF: 0; PNSUB: 0; PPCLM: 0; PPDIBLC1: 0; PPDIBLC2: 0; PPDIBLCB: 0; PPRT: 0; PPRWB: 0; PPRWG: 0; PPSCBE1: 0; PPSCBE2: 0; PPVAG: 0; PRDSW: 0; PRT: 0; PRWB: 0; PRWG: 0; PU0: 0; PUA: 0; PUA1: 0; PUB: 0; PUB1: 0; PUC: 0; PUC1: 0; PUTE: 0; PVAG: 0; PVBM: 0; PVBX: 0; PVFB: 0; PVFBCV: 0; PVOFF: 0; PVOFFCV: 0; PVSAT: 0; PVTH0: 0; PW0: 0; PWR: 0; PXJ: 0; PXT: 0; RD: 0; RDC: 0; RDSW: 0; RS: 0; RSC: 0; RSH: 0; TCJ: 0; TCJSW: 0; TCJSWG: 0; TOXM: 1.5e-08; TPB: 0; TPBSW: 0; TPBSWG: 0; VBDR_MAX: 1e99; VBS_MAX: 1e99; VBSR_MAX: 1e99; VBX: 0; VDS_MAX: 1e99; VERSION: 3.3.0; VFB: 0; VGB_MAX: 1e99; VGBR_MAX: 1e99; VGD_MAX: 1e99; VGDR_MAX: 1e99; VGS_MAX: 1e99; VGSR_MAX: 1e99; VOFFCV: 0; WA0: 0; WA1: 0; WA2: 0; WACDE: 0; WAGS: 0; WALPHA0: 0; WALPHA1: 0; WAT: 0; WB0: 0; WB1: 0; WBETA0: 0; WCDSC: 0; WCDSCB: 0; WCDSCD: 0; WCF: 0; WCGDL: 0; WCGSL: 0; WCIT: 0; WCKAPPA: 0; WCLC: 0; WCLE: 0; WDELTA: 0; WDROUT: 0; WDSUB: 0; WDVT0: 0; WDVT0W: 0; WDVT1: 0; WDVT1W: 0; WDVT2: 0; WDVT2W: 0; WDWB: 0; WDWG: 0; WELM: 0; WETA0: 0; WETAB: 0; WGAMMA1: 0; WGAMMA2: 0; WINT: 0; WK1: 0; WK2: 0; WK3: 0; WK3B: 0; WKETA: 0; WKT1: 0; WKT1L: 0; WKT2: 0; WL: 0; WLC: 0; WLN: 1; WMAX: 1; WMIN: 0; WMLT: 1; WMOIN: 0; WNCH: 0; WNFACTOR: 0; WNGATE: 0; WNLX: 0; WNOFF: 0; WNSUB: 0; WPCLM: 0; WPDIBLC1: 0; WPDIBLC2: 0; WPDIBLCB: 0; WPRT: 0; WPRWB: 0; WPRWG: 0; WPSCBE1: 0; WPSCBE2: 0; WPVAG: 0; WR: 1; WRDSW: 0; WU0: 0; WUA: 0; WUA1: 0; WUB: 0; WUB1: 0; WUC: 0; WUC1: 0; WUTE: 0; WVBM: 0; WVBX: 0; WVFB: 0; WVFBCV: 0; WVOFF: 0; WVOFFCV: 0; WVSAT: 0; WVTH0: 0; WW: 0; WW0: 0; WWC: 0; WWL: 0; WWLC: 0; WWN: 1; WWR: 0; WXJ: 0; WXT: 0; XL: 0; XPART: 0; XTI: 3; XW: 0
simulation model PMOSFET_BSIM3v1 (BSIM3v1 v3.1)
pins: 1 D, 2 G, 3 S, 4 B

## MOSFET P-ch Lev8_2
designator M?, comment P-channel MOSFET BSIM3v32 v3.2 - 3.2.4 Model  (value not drawn)
A0: 1; A1: 0; AT: 33000; BETA0: 30; CAPMOD: 3; CDSC: 0.00024; CF: 7.29897e-11; CGDO: 2.07188e-10; CJ: 0.0005; CJSW: 5e-10; CKAPPA: 0.6; CLC: 1e-07; DELTA: 0.01; DROUT: 0.56; DVT0: 2.2; DVT1: 0.53; DVT1W: 5.3e06; DVT2: -0.032; ELM: 5; EM: 4.1e07; ETA0: 0.08; ETAB: -0.07; IJTH: 0.1; JS: 0.0001; K3: 80; KETA: -0.047; KT1: -0.11; KT2: 0.022; LETAB: -0; MJ: 0.5; MJSW: 0.33; MOIN: 15; NCH: 1.7e17; NLX: 1.74e-07; NOIA: 1e20; NOIB: 50000; NOIC: -1.4e-12; NSUB: 6e16; PCLM: 1.3; PDIBLC1: 0.39; PDIBLC2: 0.0086; PSCBE1: 4.24e08; PSCBE2: 1e-05; TNOM: 300.15; TOX: 1.5e-08; U0: 0.067; UA: 2.25e-09; UA1: 4.31e-09; UB: 5.87e-19; UB1: -7.61e-18; UC: -4.65e-11; UC1: -5.6e-11; UTE: -1.5; VBD_MAX: 1e99; VBM: -3; VFBCV: -1; VOFF: -0.08; VSAT: 80000; VTH0: 0.7; W0: 2.5e-06; XJ: 1.5e-07; XT: 1.55e-07; SimulationGenericComponent: True; A2: 1; ACDE: 1; ACM: 0; AF: 1; AGS: 0; ALPHA0: 0; ALPHA1: 0; B0: 0; B1: 0; BINUNIT: 1; CALCACM: 0; CDSCB: 0; CDSCD: 0; CGBO: 0; CGDL: 0; CGSL: 0; CGSO: 2.07188e-10; CIT: 0; CJSWG: 5e-10; CLE: 0.6; DLC: 0; DSUB: 0.56; DVT0W: 0; DVT2W: -0.032; DWB: 0; DWC: 0; DWG: 0; EF: 1; GAMMA1: 0; GAMMA2: 0; HDIF: 0; JSW: 0; K1: 0; K2: 0; K3B: 0; KF: 0; KT1L: 0; LA0: 0; LA1: 0; LA2: 0; LACDE: 0; LAGS: 0; LALPHA0: 0; LALPHA1: 0; LAT: 0; LB0: 0; LB1: 0; LBETA0: 0; LCDSC: 0; LCDSCB: 0; LCDSCD: 0; LCF: 0; LCGDL: 0; LCGSL: 0; LCIT: 0; LCKAPPA: 0; LCLC: 0; LCLE: 0; LD: 0; LDELTA: 0; LDIF: 0; LDROUT: 0; LDSUB: 0; LDVT0: 0; LDVT0W: 0; LDVT1: 0; LDVT1W: 0; LDVT2: 0; LDVT2W: 0; LDWB: 0; LDWG: 0; LELM: 0; LETA0: 0; LGAMMA1: 0; LGAMMA2: 0; LINT: 0; LINTNOI: 0; LK1: 0; LK2: 0; LK3: 0; LK3B: 0; LKETA: 0; LKT1: 0; LKT1L: 0; LKT2: 0; LL: 0; LLC: 0; LLN: 1; LMAX: 1; LMIN: 0; LMOIN: 0; LNCH: 0; LNFACTOR: 0; LNGATE: 0; LNLX: 0; LNOFF: 0; LNSUB: 0; LPCLM: 0; LPDIBLC1: 0; LPDIBLC2: 0; LPDIBLCB: 0; LPRT: 0; LPRWB: 0; LPRWG: 0; LPSCBE1: 0; LPSCBE2: 0; LPVAG: 0; LRDSW: 0; LU0: 0; LUA: 0; LUA1: 0; LUB: 0; LUB1: 0; LUC: 0; LUC1: 0; LUTE: 0; LVBM: 0; LVBX: 0; LVFB: 0; LVFBCV: 0; LVOFF: 0; LVOFFCV: 0; LVSAT: 0; LVTH0: 0; LW: 0; LW0: 0; LWC: 0; LWL: 0; LWLC: 0; LWN: 1; LWR: 0; LXJ: 0; LXT: 0; MJSWG: 0.33; MOBMOD: 1; NFACTOR: 1; NGATE: 0; NJ: 1; NOFF: 1; NOIMOD: 1; PA0: 0; PA1: 0; PA2: 0; PACDE: 0; PAGS: 0; PALPHA0: 0; PALPHA1: 0; PARAMCHK: 0; PAT: 0; PB: 1; PB0: 0; PB1: 0; PBETA0: 0; PBSW: 1; PBSWG: 1; PCDSC: 0; PCDSCB: 0; PCDSCD: 0; PCF: 0; PCGDL: 0; PCGSL: 0; PCIT: 0; PCKAPPA: 0; PCLC: 0; PCLE: 0; PDELTA: 0; PDIBLCB: 0; PDROUT: 0; PDSUB: 0; PDVT0: 0; PDVT0W: 0; PDVT1: 0; PDVT1W: 0; PDVT2: 0; PDVT2W: 0; PDWB: 0; PDWG: 0; PELM: 0; PETA0: 0; PETAB: 0; PGAMMA1: 0; PGAMMA2: 0; PK1: 0; PK2: 0; PK3: 0; PK3B: 0; PKETA: 0; PKT1: 0; PKT1L: 0; PKT2: 0; PMOIN: 0; PNCH: 0; PNFACTOR: 0; PNGATE: 0; PNLX: 0; PNOFF: 0; PNSUB: 0; PPCLM: 0; PPDIBLC1: 0; PPDIBLC2: 0; PPDIBLCB: 0; PPRT: 0; PPRWB: 0; PPRWG: 0; PPSCBE1: 0; PPSCBE2: 0; PPVAG: 0; PRDSW: 0; PRT: 0; PRWB: 0; PRWG: 0; PU0: 0; PUA: 0; PUA1: 0; PUB: 0; PUB1: 0; PUC: 0; PUC1: 0; PUTE: 0; PVAG: 0; PVBM: 0; PVBX: 0; PVFB: 0; PVFBCV: 0; PVOFF: 0; PVOFFCV: 0; PVSAT: 0; PVTH0: 0; PW0: 0; PWR: 0; PXJ: 0; PXT: 0; RD: 0; RDC: 0; RDSW: 0; RS: 0; RSC: 0; RSH: 0; TCJ: 0; TCJSW: 0; TCJSWG: 0; TOXM: 1.5e-08; TPB: 0; TPBSW: 0; TPBSWG: 0; VBDR_MAX: 1e99; VBS_MAX: 1e99; VBSR_MAX: 1e99; VBX: 0; VDS_MAX: 1e99; VERSION: 3.3.0; VFB: 0; VGB_MAX: 1e99; VGBR_MAX: 1e99; VGD_MAX: 1e99; VGDR_MAX: 1e99; VGS_MAX: 1e99; VGSR_MAX: 1e99; VOFFCV: 0; WA0: 0; WA1: 0; WA2: 0; WACDE: 0; WAGS: 0; WALPHA0: 0; WALPHA1: 0; WAT: 0; WB0: 0; WB1: 0; WBETA0: 0; WCDSC: 0; WCDSCB: 0; WCDSCD: 0; WCF: 0; WCGDL: 0; WCGSL: 0; WCIT: 0; WCKAPPA: 0; WCLC: 0; WCLE: 0; WDELTA: 0; WDROUT: 0; WDSUB: 0; WDVT0: 0; WDVT0W: 0; WDVT1: 0; WDVT1W: 0; WDVT2: 0; WDVT2W: 0; WDWB: 0; WDWG: 0; WELM: 0; WETA0: 0; WETAB: 0; WGAMMA1: 0; WGAMMA2: 0; WINT: 0; WK1: 0; WK2: 0; WK3: 0; WK3B: 0; WKETA: 0; WKT1: 0; WKT1L: 0; WKT2: 0; WL: 0; WLC: 0; WLN: 1; WMAX: 1; WMIN: 0; WMLT: 1; WMOIN: 0; WNCH: 0; WNFACTOR: 0; WNGATE: 0; WNLX: 0; WNOFF: 0; WNSUB: 0; WPCLM: 0; WPDIBLC1: 0; WPDIBLC2: 0; WPDIBLCB: 0; WPRT: 0; WPRWB: 0; WPRWG: 0; WPSCBE1: 0; WPSCBE2: 0; WPVAG: 0; WR: 1; WRDSW: 0; WU0: 0; WUA: 0; WUA1: 0; WUB: 0; WUB1: 0; WUC: 0; WUC1: 0; WUTE: 0; WVBM: 0; WVBX: 0; WVFB: 0; WVFBCV: 0; WVOFF: 0; WVOFFCV: 0; WVSAT: 0; WVTH0: 0; WW: 0; WW0: 0; WWC: 0; WWL: 0; WWLC: 0; WWN: 1; WWR: 0; WXJ: 0; WXT: 0; XL: 0; XPART: 0; XTI: 3; XW: 0
simulation model PMOSFET_BSIM3v32 (BSIM3v32 v3.2 - 3.2.4)
pins: 1 D, 2 G, 3 S, 4 B

## MOSFET P-ch Lev8_3
designator M?, comment P-channel MOSFET BSIM3v3 v3.3.0 Model  (value not drawn)
A0: 1; A1: 0; AT: 33000; BETA0: 30; CAPMOD: 3; CDSC: 0.00024; CF: 7.29897e-11; CGDO: 2.07188e-10; CJ: 0.0005; CJSW: 5e-10; CKAPPA: 0.6; CLC: 1e-07; DELTA: 0.01; DROUT: 0.56; DVT0: 2.2; DVT1: 0.53; DVT1W: 5.3e06; DVT2: -0.032; ELM: 5; EM: 4.1e07; ETA0: 0.08; ETAB: -0.07; IJTH: 0.1; JS: 0.0001; K3: 80; KETA: -0.047; KT1: -0.11; KT2: 0.022; LETAB: -0; MJ: 0.5; MJSW: 0.33; MOIN: 15; NCH: 1.7e17; NLX: 1.74e-07; NOIA: 1e20; NOIB: 50000; NOIC: -1.4e-12; NSUB: 6e16; PCLM: 1.3; PDIBLC1: 0.39; PDIBLC2: 0.0086; PSCBE1: 4.24e08; PSCBE2: 1e-05; TNOM: 300.15; TOX: 1.5e-08; U0: 0.067; UA: 2.25e-09; UA1: 4.31e-09; UB: 5.87e-19; UB1: -7.61e-18; UC: -4.65e-11; UC1: -5.6e-11; UTE: -1.5; VBD_MAX: 1e99; VBM: -3; VFBCV: -1; VOFF: -0.08; VSAT: 80000; VTH0: 0.7; W0: 2.5e-06; XJ: 1.5e-07; XT: 1.55e-07; SimulationGenericComponent: True; A2: 1; ACDE: 1; ACM: 0; AF: 1; AGS: 0; ALPHA0: 0; ALPHA1: 0; B0: 0; B1: 0; BINUNIT: 1; CALCACM: 0; CDSCB: 0; CDSCD: 0; CGBO: 0; CGDL: 0; CGSL: 0; CGSO: 2.07188e-10; CIT: 0; CJSWG: 5e-10; CLE: 0.6; DLC: 0; DSUB: 0.56; DVT0W: 0; DVT2W: -0.032; DWB: 0; DWC: 0; DWG: 0; EF: 1; GAMMA1: 0; GAMMA2: 0; HDIF: 0; JSW: 0; K1: 0; K2: 0; K3B: 0; KF: 0; KT1L: 0; LA0: 0; LA1: 0; LA2: 0; LACDE: 0; LAGS: 0; LALPHA0: 0; LALPHA1: 0; LAT: 0; LB0: 0; LB1: 0; LBETA0: 0; LCDSC: 0; LCDSCB: 0; LCDSCD: 0; LCF: 0; LCGDL: 0; LCGSL: 0; LCIT: 0; LCKAPPA: 0; LCLC: 0; LCLE: 0; LD: 0; LDELTA: 0; LDIF: 0; LDROUT: 0; LDSUB: 0; LDVT0: 0; LDVT0W: 0; LDVT1: 0; LDVT1W: 0; LDVT2: 0; LDVT2W: 0; LDWB: 0; LDWG: 0; LELM: 0; LETA0: 0; LGAMMA1: 0; LGAMMA2: 0; LINT: 0; LINTNOI: 0; LK1: 0; LK2: 0; LK3: 0; LK3B: 0; LKETA: 0; LKT1: 0; LKT1L: 0; LKT2: 0; LL: 0; LLC: 0; LLN: 1; LMAX: 1; LMIN: 0; LMOIN: 0; LNCH: 0; LNFACTOR: 0; LNGATE: 0; LNLX: 0; LNOFF: 0; LNSUB: 0; LPCLM: 0; LPDIBLC1: 0; LPDIBLC2: 0; LPDIBLCB: 0; LPRT: 0; LPRWB: 0; LPRWG: 0; LPSCBE1: 0; LPSCBE2: 0; LPVAG: 0; LRDSW: 0; LU0: 0; LUA: 0; LUA1: 0; LUB: 0; LUB1: 0; LUC: 0; LUC1: 0; LUTE: 0; LVBM: 0; LVBX: 0; LVFB: 0; LVFBCV: 0; LVOFF: 0; LVOFFCV: 0; LVSAT: 0; LVTH0: 0; LW: 0; LW0: 0; LWC: 0; LWL: 0; LWLC: 0; LWN: 1; LWR: 0; LXJ: 0; LXT: 0; MJSWG: 0.33; MOBMOD: 1; NFACTOR: 1; NGATE: 0; NJ: 1; NOFF: 1; NOIMOD: 1; PA0: 0; PA1: 0; PA2: 0; PACDE: 0; PAGS: 0; PALPHA0: 0; PALPHA1: 0; PARAMCHK: 0; PAT: 0; PB: 1; PB0: 0; PB1: 0; PBETA0: 0; PBSW: 1; PBSWG: 1; PCDSC: 0; PCDSCB: 0; PCDSCD: 0; PCF: 0; PCGDL: 0; PCGSL: 0; PCIT: 0; PCKAPPA: 0; PCLC: 0; PCLE: 0; PDELTA: 0; PDIBLCB: 0; PDROUT: 0; PDSUB: 0; PDVT0: 0; PDVT0W: 0; PDVT1: 0; PDVT1W: 0; PDVT2: 0; PDVT2W: 0; PDWB: 0; PDWG: 0; PELM: 0; PETA0: 0; PETAB: 0; PGAMMA1: 0; PGAMMA2: 0; PK1: 0; PK2: 0; PK3: 0; PK3B: 0; PKETA: 0; PKT1: 0; PKT1L: 0; PKT2: 0; PMOIN: 0; PNCH: 0; PNFACTOR: 0; PNGATE: 0; PNLX: 0; PNOFF: 0; PNSUB: 0; PPCLM: 0; PPDIBLC1: 0; PPDIBLC2: 0; PPDIBLCB: 0; PPRT: 0; PPRWB: 0; PPRWG: 0; PPSCBE1: 0; PPSCBE2: 0; PPVAG: 0; PRDSW: 0; PRT: 0; PRWB: 0; PRWG: 0; PU0: 0; PUA: 0; PUA1: 0; PUB: 0; PUB1: 0; PUC: 0; PUC1: 0; PUTE: 0; PVAG: 0; PVBM: 0; PVBX: 0; PVFB: 0; PVFBCV: 0; PVOFF: 0; PVOFFCV: 0; PVSAT: 0; PVTH0: 0; PW0: 0; PWR: 0; PXJ: 0; PXT: 0; RD: 0; RDC: 0; RDSW: 0; RS: 0; RSC: 0; RSH: 0; TCJ: 0; TCJSW: 0; TCJSWG: 0; TOXM: 1.5e-08; TPB: 0; TPBSW: 0; TPBSWG: 0; VBDR_MAX: 1e99; VBS_MAX: 1e99; VBSR_MAX: 1e99; VBX: 0; VDS_MAX: 1e99; VERSION: 3.3.0; VFB: 0; VGB_MAX: 1e99; VGBR_MAX: 1e99; VGD_MAX: 1e99; VGDR_MAX: 1e99; VGS_MAX: 1e99; VGSR_MAX: 1e99; VOFFCV: 0; WA0: 0; WA1: 0; WA2: 0; WACDE: 0; WAGS: 0; WALPHA0: 0; WALPHA1: 0; WAT: 0; WB0: 0; WB1: 0; WBETA0: 0; WCDSC: 0; WCDSCB: 0; WCDSCD: 0; WCF: 0; WCGDL: 0; WCGSL: 0; WCIT: 0; WCKAPPA: 0; WCLC: 0; WCLE: 0; WDELTA: 0; WDROUT: 0; WDSUB: 0; WDVT0: 0; WDVT0W: 0; WDVT1: 0; WDVT1W: 0; WDVT2: 0; WDVT2W: 0; WDWB: 0; WDWG: 0; WELM: 0; WETA0: 0; WETAB: 0; WGAMMA1: 0; WGAMMA2: 0; WINT: 0; WK1: 0; WK2: 0; WK3: 0; WK3B: 0; WKETA: 0; WKT1: 0; WKT1L: 0; WKT2: 0; WL: 0; WLC: 0; WLN: 1; WMAX: 1; WMIN: 0; WMLT: 1; WMOIN: 0; WNCH: 0; WNFACTOR: 0; WNGATE: 0; WNLX: 0; WNOFF: 0; WNSUB: 0; WPCLM: 0; WPDIBLC1: 0; WPDIBLC2: 0; WPDIBLCB: 0; WPRT: 0; WPRWB: 0; WPRWG: 0; WPSCBE1: 0; WPSCBE2: 0; WPVAG: 0; WR: 1; WRDSW: 0; WU0: 0; WUA: 0; WUA1: 0; WUB: 0; WUB1: 0; WUC: 0; WUC1: 0; WUTE: 0; WVBM: 0; WVBX: 0; WVFB: 0; WVFBCV: 0; WVOFF: 0; WVOFFCV: 0; WVSAT: 0; WVTH0: 0; WW: 0; WW0: 0; WWC: 0; WWL: 0; WWLC: 0; WWN: 1; WWR: 0; WXJ: 0; WXT: 0; XL: 0; XPART: 0; XTI: 3; XW: 0
simulation model PMOSFET_BSIM3v3 (BSIM3v3 v3.3.0)
pins: 1 D, 2 G, 3 S, 4 B

## MOSFET P-ch Lev9
designator M?, comment P-channel MOSFET MOS9 Model  (value not drawn)
AF: 1; ALPHA: 0; FC: 0.5; IS: 1e-14; KAPPA: 0.2; KP: 2.07189e-05; MJSW: 0.33; PB: 0.8; PHI: 0.6; TNOM: 27; TOX: 1e-07; U0: 600; SimulationGenericComponent: True; CBD: 0; CBS: 0; CGBO: 0; CGDO: 0; CGSO: 0; CJ: 0; CJSW: 0; DELTA: 0; DELVTO: 0; ETA: 0; GAMMA: 0; INPUT_DELTA: 0; JS: 0; KF: 0; LD: 0; MJ: 0.5; NFS: 0; NSS: 0; NSUB: 0; RD: 0; RS: 0; RSH: 0; THETA: 0; TPG: 0; VMAX: 0; VTO: 0; WD: 0; XD: 0; XJ: 0; XL: 0; XW: 0
simulation model PMOSFET_Level9 (MOS9)
pins: 1 D, 2 G, 3 S, 4 B

## MOSFET P-ch Lev10
designator M?, comment P-channel MOSFET BSIM4SOI v4.3.1 Model  (value not drawn)
A0: 1; A1: 0; AIGBCP2: 0.043; AIGC: 0.43; ALPHAGB1: 0.35; ASD: 0.3; AT: 33000; BETA2: 0.1; BETAGB1: 0.03; BETAGB2: 0.05; BF: 2; BG0SUB: 1.16; BGIDL: 2.3e09; BIGBCP2: 0.0054; BIGC: 0.054; CDSC: 0.00024; CF: 8.16367e-11; CGDO: 2.07188e-10; CGIDL: 0.5; CIGBCP2: 0.0075; CIGC: 0.075; CJSWG: 1e-10; CKAPPA: 0.6; CLC: 1e-08; DELTA: 0.01; DELTAVOX: 0.005; DROUT: 0.56; DVT0: 2.2; DVT1: 0.53; DVT1W: 5.3e06; DVT2: -0.032; EASUB: 4.05; EBG: 1.2; EM: 4.1e07; EPSRGATE: 11.7; EPSROX: 3.9; ESATII: 1e07; ETA0: 0.08; ETAB: -0.07; ETSI: 1e-07; EU: 1.67; GBMIN: 1e-12; IDBJT: 1e-06; IDREC: 1e-05; KETA: -0.6; KT1: -0.11; KT2: 0.022; LBJT0: 2e-07; LN: 2e-06; LPE0: 1.74e-07; MBJTII: 0.4; MOIN: 15; MOINFD: 1000; NCH: 1.7e17; NDIF: -1; NI0SUB: 1.45e10; NOIA: 6.25e41; NOIB: 3.125e26; NOIC: 8.75e09; NRECR0: 10; NSD: 1e20; NSUB: 6e16; PBSWG: 0.7; PCLM: 1.3; PDIBLC1: 0.39; PDIBLC2: 0.0086; PDITS: 1e-20; RDSW: 100; RDW: 50; RHALO: 1e15; RNOIA: 0.577; RNOIB: 0.37; TBGASUB: 0.000702; TBGBSUB: 1108; TBOX: 3e-07; TEMPEOT: 300.15; TNOIA: 1.5; TNOIB: 3.5; TOXREF: 2.5e-09; U0: 0.067; UA: 2.25e-09; UA1: 4.31e-09; UB: 5.87e-19; UB1: -7.61e-18; UC: -4.65e-11; UC1: -5.6e-11; UCSTE: -0.004775; UTE: -1.5; VBD_MAX: 1e99; VBM: -3; VDSATII0: 0.9; VECB: 0.026; VGB1: 300; VGB2: 17; VOFF: -0.08; VOXH: 5; VSAT: 80000; W0: 2.5e-06; XRCRG1: 12; XT: 1.55e-07; SimulationGenericComponent: True; A2: 1; ABJTII: 0; ACDE: 1; ADOS: 1; AELY: 0; AF: 1; AGIDL: 0; AGISL: 0; AGS: 0; AHLI: 0; AHLID: 0; AIGSD: 0.43; ALPHA0: 0; ALPHAGB2: 0.43; B0: 0; B1: 0; BDOS: 1; BETA0: 0; BETA1: 0; BGISL: 2.3e09; BIGSD: 0.054; BINUNIT: 1; CAPMOD: 2; CBJTII: 0; CDSBS: 0; CDSCB: 0; CDSCD: 0; CFRCOEFF: 1; CGDL: 0; CGEO: 0; CGISL: 0.5; CGSL: 0; CGSO: 2.07188e-10; CIGSD: 0.075; CIT: 0; CJSWGD: 1e-10; CLE: 0; CSDESW: 0; CSDMIN: 0; DELVT: 0; DK2B: 0; DLBG: 0; DLC: 0; DLCB: 0; DLCIG: 0; DSUB: 0.56; DTOXCV: 0; DVBD0: 0; DVBD1: 0; DVT0W: 0; DVT2W: -0.032; DVTP0: 0; DVTP1: 0; DVTP2: 0; DVTP3: 0; DVTP4: 0; DWB: 0; DWBC: 0; DWC: 0; DWG: 0; EBJTII: 0; EF: 1; EGIDL: 1.2; EGISL: 1.2; EOT: 1e-08; EPSRSUB: 11.7; FBJTII: 0; FBODY: 1; FDMOD: 0; FGIDL: 0; FGISL: 0; FNOIMOD: 1; FPROUT: 0; GAMMA1: 0; GAMMA2: 0; GIDLMOD: 0; IDDIF: 0; IDTUN: 0; IGCMOD: 0; IGMOD: 0; IIIMOD: 0; ISBJT: 1e-06; ISDIF: 0; ISREC: 1e-05; ISTUN: 0; K1: 0; K1B: 1; K1W1: 0; K1W2: 0; K2: 0; K2B: 0; K3: 0; K3B: 0; KB1: 1; KETAS: 0; KF: 0; KGIDL: 0; KGISL: 0; KT1L: 0; KU0: 0; KVSAT: 0; KVTH0: 0; LA0: 0; LA1: 0; LA2: 0; LABJTII: 0; LACDE: 0; LAELY: 0; LAGIDL: 0; LAGISL: 0; LAGS: 0; LAHLI: 0; LAHLID: 0; LAIGBCP2: 0; LAIGC: 0; LAIGSD: 0; LALPHA0: 0; LALPHAGB1: 0; LALPHAGB2: 0; LAT: 0; LB0: 0; LB1: 0; LBETA0: 0; LBETA1: 0; LBETA2: 0; LBETAGB1: 0; LBETAGB2: 0; LBGIDL: 0; LBGISL: 0; LBIGBCP2: 0; LBIGC: 0; LBIGSD: 0; LCBJTII: 0; LCDSC: 0; LCDSCB: 0; LCDSCD: 0; LCGDL: 0; LCGIDL: 0; LCGISL: 0; LCGSL: 0; LCIGBCP2: 0; LCIGC: 0; LCIGSD: 0; LCIT: 0; LCKAPPA: 0; LDELTA: 0; LDELVT: 0; LDIF0: 1; LDROUT: 0; LDSUB: 0; LDVT0: 0; LDVT0W: 0; LDVT1: 0; LDVT1W: 0; LDVT2: 0; LDVT2W: 0; LDVTP0: 0; LDVTP1: 0; LDVTP2: 0; LDVTP3: 0; LDVTP4: 0; LDWB: 0; LDWG: 0; LEBJTII: 0; LEFFEOT: 1; LEGIDL: 0; LEGISL: 0; LESATII: 0; LETA0: 0; LETAB: 0; LEU: 0; LFBJTII: 0; LFGIDL: 0; LFGISL: 0; LFPROUT: 0; LIDBJT: 0; LIDDIF: 0; LIDREC: 0; LIDTUN: 0; LII: 0; LINT: 0; LISBJT: 0; LISDIF: 0; LISREC: 0; LISTUN: 0; LK1: 0; LK1W1: 0; LK1W2: 0; LK2: 0; LK3: 0; LK3B: 0; LKB1: 0; LKETA: 0; LKETAS: 0; LKGIDL: 0; LKGISL: 0; LKT1: 0; LKT1L: 0; LKT2: 0; LKU0: 0; LKVTH0: 0; LL: 0; LLBJT0: 0; LLC: 0; LLII: 0; LLN: 1; LLODKU0: 0; LLODVTH: 0; LLPE0: 0; LLPEB: 0; LMBJTII: 0; LMINV: 0; LMINVCV: 0; LMOIN: 0; LNBJT: 0; LNCH: 0; LNDIF: 0; LNDIODE: 0; LNDIODED: 0; LNFACTOR: 0; LNGATE: 0; LNIGC: 0; LNOFF: 0; LNRECF0: 0; LNRECF0D: 0; LNRECR0: 0; LNRECR0D: 0; LNSD: 0; LNSUB: 0; LNTRECF: 0; LNTRECR: 0; LNTUN: 0; LNTUND: 0; LODETA0: 1; LODK2: 1; LPCLM: 0; LPDIBLC1: 0; LPDIBLC2: 0; LPDIBLCB: 0; LPDITS: 0; LPDITSD: 0; LPEB: 0; LPIGCD: 0; LPOXEDGE: 0; LPRT: 0; LPRWB: 0; LPRWG: 0; LPVAG: 0; LRDSW: 0; LRDW: 0; LRGIDL: 0; LRGISL: 0; LRSW: 0; LSII0: 0; LSII1: 0; LSII2: 0; LSIID: 0; LU0: 0; LUA: 0; LUA1: 0; LUB: 0; LUB1: 0; LUC: 0; LUC1: 0; LUCS: 0; LUCSTE: 0; LUD: 0; LUD1: 0; LUTE: 0; LVABJT: 0; LVBCI: 0; LVDSATII0: 0; LVFB: 0; LVOFF: 0; LVOFFCV: 0; LVREC0: 0; LVREC0D: 0; LVSAT: 0; LVSDFB: 0; LVSDTH: 0; LVTH0: 0; LVTUN0: 0; LVTUN0D: 0; LW: 0; LW0: 0; LWC: 0; LWL: 0; LWLC: 0; LWN: 1; LWR: 0; LXBJT: 0; LXDIF: 0; LXDIFD: 0; LXJ: 0; LXREC: 0; LXRECD: 0; LXTUN: 0; LXTUND: 0; MINV: 0; MINVCV: 0; MJSWG: 0.5; MJSWGD: 0.5; MOBMOD: 1; MTRLMOD: 0; NBJT: 1; NDIODE: 1; NDIODED: 1; NFACTOR: 1; NGATE: 0; NGCON: 1; NIGC: 1; NOFF: 1; NOFFFD: 1; NOIF: 1; NRECF0: 2; NRECF0D: 2; NRECR0D: 10; NTNOI: 1; NTOX: 1; NTRECF: 0; NTRECR: 0; NTUN: 10; NTUND: 10; PA0: 0; PA1: 0; PA2: 0; PABJTII: 0; PACDE: 0; PAELY: 0; PAGIDL: 0; PAGISL: 0; PAGS: 0; PAHLI: 0; PAHLID: 0; PAIGBCP2: 0; PAIGC: 0; PAIGSD: 0; PALPHA0: 0; PALPHAGB1: 0; PALPHAGB2: 0; PARAMCHK: 0; PAT: 0; PB0: 0; PB1: 0; PBETA0: 0; PBETA1: 0; PBETA2: 0; PBETAGB1: 0; PBETAGB2: 0; PBGIDL: 0; PBGISL: 0; PBIGBCP2: 0; PBIGC: 0; PBIGSD: 0; PBSWGD: 0.7; PCBJTII: 0; PCDSC: 0; PCDSCB: 0; PCDSCD: 0; PCGDL: 0; PCGIDL: 0; PCGISL: 0; PCGSL: 0; PCIGBCP2: 0; PCIGC: 0; PCIGSD: 0; PCIT: 0; PCKAPPA: 0; PDELTA: 0; PDELVT: 0; PDIBLCB: 0; PDITSD: 0; PDITSL: 0; PDROUT: 0; PDSUB: 0; PDVT0: 0; PDVT0W: 0; PDVT1: 0; PDVT1W: 0; PDVT2: 0; PDVT2W: 0; PDVTP0: 0; PDVTP1: 0; PDVTP2: 0; PDVTP3: 0; PDVTP4: 0; PDWB: 0; PDWG: 0; PEBJTII: 0; PEGIDL: 0; PEGISL: 0; PESATII: 0; PETA0: 0; PETAB: 0; PEU: 0; PFBJTII: 0; PFGIDL: 0; PFGISL: 0; PFPROUT: 0; PHIG: 4.05; PIDBJT: 0; PIDDIF: 0; PIDREC: 0; PIDTUN: 0; PIGCD: 1; PISBJT: 0; PISDIF: 0; PISREC: 0; PISTUN: 0; PK1: 0; PK1W1: 0; PK1W2: 0; PK2: 0; PK3: 0; PK3B: 0; PKB1: 0; PKETA: 0; PKETAS: 0; PKGIDL: 0; PKGISL: 0; PKT1: 0; PKT1L: 0; PKT2: 0; PKU0: 0; PKVTH0: 0; PLBJT0: 0; PLII: 0; PLPE0: 0; PLPEB: 0; PMBJTII: 0; PMINV: 0; PMINVCV: 0; PMOIN: 0; PNBJT: 0; PNCH: 0; PNDIF: 0; PNDIODE: 0; PNDIODED: 0; PNFACTOR: 0; PNGATE: 0; PNIGC: 0; PNOFF: 0; PNRECF0: 0; PNRECF0D: 0; PNRECR0: 0; PNRECR0D: 0; PNSD: 0; PNSUB: 0; PNTRECF: 0; PNTRECR: 0; PNTUN: 0; PNTUND: 0; POXEDGE: 1; PPCLM: 0; PPDIBLC1: 0; PPDIBLC2: 0; PPDIBLCB: 0; PPDITS: 0; PPDITSD: 0; PPIGCD: 0; PPOXEDGE: 0; PPRT: 0; PPRWB: 0; PPRWG: 0; PPVAG: 0; PRDSW: 0; PRDW: 0; PRGIDL: 0; PRGISL: 0; PRSW: 0; PRT: 0; PRWB: 0; PRWG: 0; PSII0: 0; PSII1: 0; PSII2: 0; PSIID: 0; PU0: 0; PUA: 0; PUA1: 0; PUB: 0; PUB1: 0; PUC: 0; PUC1: 0; PUCS: 0; PUCSTE: 0; PUD: 0; PUD1: 0; PUTE: 0; PVABJT: 0; PVAG: 0; PVBCI: 0; PVDSATII0: 0; PVFB: 0; PVOFF: 0; PVOFFCV: 0; PVREC0: 0; PVREC0D: 0; PVSAT: 0; PVSDFB: 0; PVSDTH: 0; PVTH0: 0; PVTUN0: 0; PVTUN0D: 0; PW0: 0; PWR: 0; PXBJT: 0; PXDIF: 0; PXDIFD: 0; PXJ: 0; PXREC: 0; PXRECD: 0; PXTUN: 0; PXTUND: 0; RBODY: 0; RBSH: 0; RDSMOD: 0; RDWMIN: 0; RGIDL: 1; RGISL: 1; RSH: 0; RSHG: 0.1; RSW: 50; RSWMIN: 0; SAREF: 1e-06; SBREF: 1e-06; SHMOD: 0; SII0: 0.5; SII1: 0.1; SII2: 0; SIID: 0; STETA0: 0; STK2: 0; TCJSWG: 0; TCJSWGD: 0; TII: 0; TKU0: 0; TNOIMOD: 0; TNOM: 300.15; TOX: 1e-08; TOXM: 1e-08; TOXP: 1e-08; TOXQM: 1e-08; TPBSWG: 0; TPBSWGD: 0; TSI: 1e-07; TT: 1e-12; TVBCI: 0; UCS: 1.67; UD: 0; UD1: 0; VABJT: 10; VBCI: 0; VBDR_MAX: 1e99; VBS0FD: 0.5; VBS0PD: 0; VBS_MAX: 1e99; VBSA: 0; VBSR_MAX: 1e99; VBX: 0; VDDEOT: 1.5; VDS_MAX: 1e99; VERSION: 4.4; VEVB: 0.075; VFB: -1; VGB_MAX: 1e99; VGBR_MAX: 1e99; VGD_MAX: 1e99; VGDR_MAX: 1e99; VGS_MAX: 1e99; VGSR_MAX: 1e99; VGSTCVMOD: 1; VOFFCV: 0; VOFFFD: 0; VREC0: 0; VREC0D: 0; VSCE: 0; VSDFB: 0; VSDTH: 0; VTH0: 0.7; VTUN0: 0; VTUN0D: 0; W0FLK: 1e-05; WA0: 0; WA1: 0; WA2: 0; WABJTII: 0; WACDE: 0; WAELY: 0; WAGIDL: 0; WAGISL: 0; WAGS: 0; WAHLI: 0; WAHLID: 0; WAIGBCP2: 0; WAIGC: 0; WAIGSD: 0; WALPHA0: 0; WALPHAGB1: 0; WALPHAGB2: 0; WAT: 0; WB0: 0; WB1: 0; WBETA0: 0; WBETA1: 0; WBETA2: 0; WBETAGB1: 0; WBETAGB2: 0; WBGIDL: 0; WBGISL: 0; WBIGBCP2: 0; WBIGC: 0; WBIGSD: 0; WCBJTII: 0; WCDSC: 0; WCDSCB: 0; WCDSCD: 0; WCGDL: 0; WCGIDL: 0; WCGISL: 0; WCGSL: 0; WCIGBCP2: 0; WCIGC: 0; WCIGSD: 0; WCIT: 0; WCKAPPA: 0; WDELTA: 0; WDELVT: 0; WDROUT: 0; WDSUB: 0; WDVT0: 0; WDVT0W: 0; WDVT1: 0; WDVT1W: 0; WDVT2: 0; WDVT2W: 0; WDVTP0: 0; WDVTP1: 0; WDVTP2: 0; WDVTP3: 0; WDVTP4: 0; WDWB: 0; WDWG: 0; WEBJTII: 0; WEFFEOT: 10; WEGIDL: 0; WEGISL: 0; WESATII: 0; WETA0: 0; WETAB: 0; WEU: 0; WFBJTII: 0; WFGIDL: 0; WFGISL: 0; WFPROUT: 0; WIDBJT: 0; WIDDIF: 0; WIDREC: 0; WIDTUN: 0; WINT: 0; WISBJT: 0; WISDIF: 0; WISREC: 0; WISTUN: 0; WK1: 0; WK1W1: 0; WK1W2: 0; WK2: 0; WK3: 0; WK3B: 0; WKB1: 0; WKETA: 0; WKETAS: 0; WKGIDL: 0; WKGISL: 0; WKT1: 0; WKT1L: 0; WKT2: 0; WKU0: 0; WKVTH0: 0; WL: 0; WLBJT0: 0; WLC: 0; WLII: 0; WLN: 1; WLOD: 0; WLODKU0: 0; WLODVTH: 0; WLPE0: 0; WLPEB: 0; WMBJTII: 0; WMINV: 0; WMINVCV: 0; WMOIN: 0; WNBJT: 0; WNCH: 0; WNDIF: 0; WNDIODE: 0; WNDIODED: 0; WNFACTOR: 0; WNGATE: 0; WNIGC: 0; WNOFF: 0; WNRECF0: 0; WNRECF0D: 0; WNRECR0: 0; WNRECR0D: 0; WNSD: 0; WNSUB: 0; WNTRECF: 0; WNTRECR: 0; WNTUN: 0; WNTUND: 0; WPCLM: 0; WPDIBLC1: 0; WPDIBLC2: 0; WPDIBLCB: 0; WPDITS: 0; WPDITSD: 0; WPIGCD: 0; WPOXEDGE: 0; WPRT: 0; WPRWB: 0; WPRWG: 0; WPVAG: 0; WR: 1; WRDSW: 0; WRDW: 0; WRGIDL: 0; WRGISL: 0; WRSW: 0; WSII0: 0; WSII1: 0; WSII2: 0; WSIID: 0; WTH0: 0; WU0: 0; WUA: 0; WUA1: 0; WUB: 0; WUB1: 0; WUC: 0; WUC1: 0; WUCS: 0; WUCSTE: 0; WUD: 0; WUD1: 0; WUTE: 0; WVABJT: 0; WVBCI: 0; WVDSATII0: 0; WVFB: 0; WVOFF: 0; WVOFFCV: 0; WVREC0: 0; WVREC0D: 0; WVSAT: 0; WVSDFB: 0; WVSDTH: 0; WVTH0: 0; WVTUN0: 0; WVTUN0D: 0; WW: 0; WW0: 0; WWC: 0; WWL: 0; WWLC: 0; WWN: 1; WWR: 0; WXBJT: 0; WXDIF: 0; WXDIFD: 0; WXJ: 0; WXREC: 0; WXRECD: 0; WXTUN: 0; WXTUND: 0; XBJT: 1; XDIF: 1; XDIFD: 1; XGL: 0; XGW: 0; XPART: 0; XRCRG2: 1; XREC: 1; XRECD: 1; XTUN: 0; XTUND: 0
simulation model PMOSFET_B4SOI (BSIM4SOI v4.3.1)
pins: 1 D, 2 G, 3 S, 4 B